# EAGLE library part ATZB-RF-233-1-C (library radios)
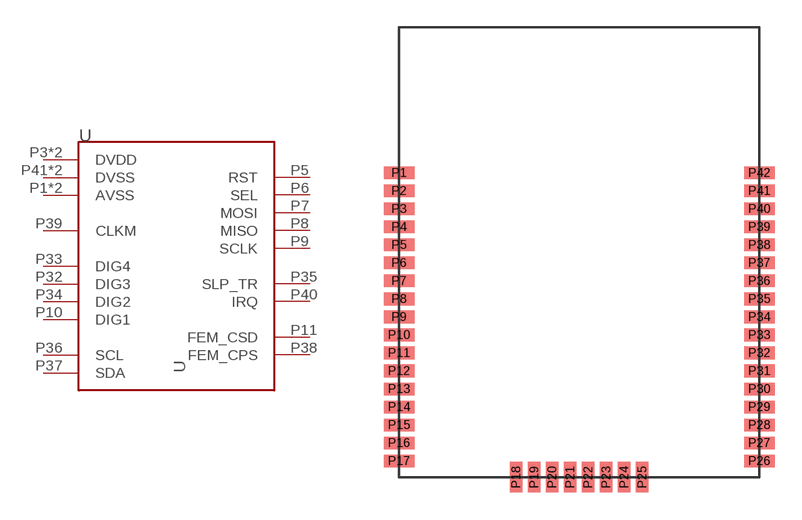
[diagram p1: symbol with the pads of ATZB-RF-233-1-C; footprint ATZB-RF-233-1-C]

Designator prefix -

## ATZB-RF-233-1-C  [ATZB-RF-233-1-C]
P1  AVSS
P2  AVSS
P3  DVDD
P4  DVDD
P5  RST
P6  SEL
P7  MOSI
P8  MISO
P9  SCLK
P10  DIG1
P11  FEM_CSD
P32  DIG3
P33  DIG4
P34  DIG2
P35  SLP_TR
P36  SCL
P37  SDA
P38  FEM_CPS
P39  CLKM
P40  IRQ
P41  DVSS
P42  DVSS

## Footprint ATZB-RF-233-1-C (pad centres in mm)
smd 1.7 x 0.7: P1 0,16.9; P2 0,15.9; P3 0,14.9; P4 0,13.9; P5 0,12.9; P6 0,11.9; P7 0,10.9; P8 0,9.9; P9 0,8.9; P10 0,7.9; P11 0,6.9; P12 0,5.9; P13 0,4.9; P14 0,3.9; P15 0,2.9; P16 0,1.9; P17 0,0.9; P26 20,0.9; P27 20,1.9; P28 20,2.9; P29 20,3.9; P30 20,4.9; P31 20,5.9; P32 20,6.9; P33 20,7.9; P34 20,8.9; P35 20,9.9; P36 20,10.9; P37 20,11.9; P38 20,12.9; P39 20,13.9; P40 20,14.9; P41 20,15.9; P42 20,16.9
smd 0.7 x 1.7: P18 6.5,0; P19 7.5,0; P20 8.5,0; P21 9.5,0; P22 10.5,0; P23 11.5,0; P24 12.5,0; P25 13.5,0